# EAGLE library part HEADER_6X1_1.27 (library bschulz)
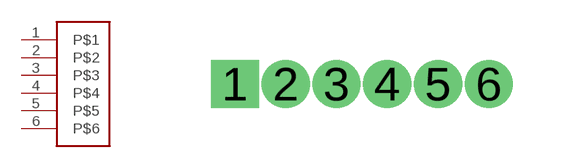
[diagram p29: symbol with the pads of 1X6_127; footprint 1X6_127]

Designator prefix -

## HEADER_6X1_1.27  [1X6_127]
1  P$1
2  P$2
3  P$3
4  P$4
5  P$5
6  P$6

## Footprint 1X6_127 (pad centres in mm)
drill 0.7 pad 1.016 square: 1 -3.175,0
drill 0.7 pad 1.016: 2 -1.905,0; 3 -0.635,0; 4 0.635,0; 5 1.905,0; 6 3.175,0